# Altium footprint library ST-PJ-312.PcbLib: 1 footprints
Each footprint in its own frame and in the unit in brackets; x right, y up, seen from the top. Pads: shape width x height; smd on the part's side, far side on the other; paste and mask are expansions set on the pad; w line width, h text height; cw(c..) or ccw(c..) is an arc to the next point about the centre after c.
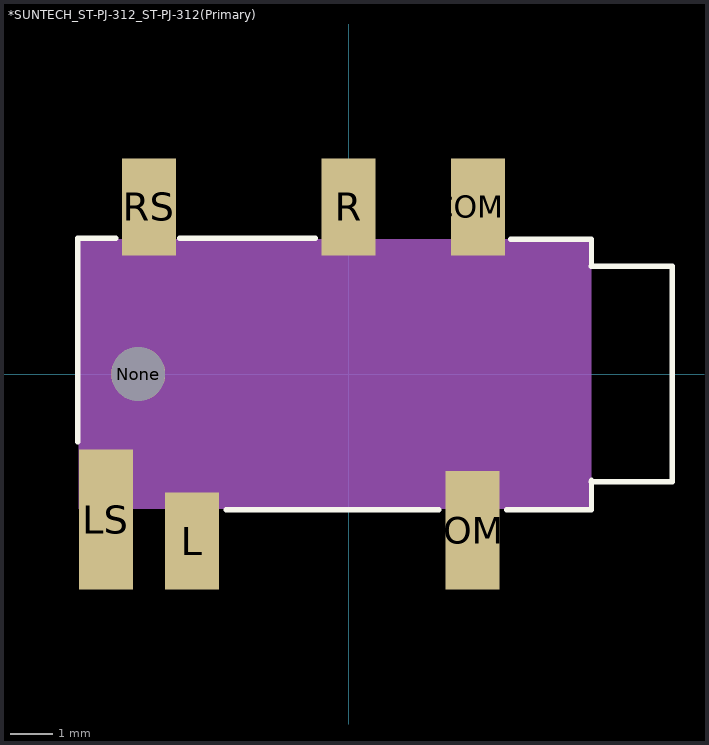
[diagram p0: the footprint, top view; thin cyan lines are the x and y axes]

## *SUNTECH_ST-PJ-312_ST-PJ-312(Primary) [mil]
pads (7):
  rect 50x90 smd: COM1(120,155) L(-145,-155) R(0,155) RS(-185,155)
  rect 50x110 smd: COM2(115,-145)
  rect 50x130 smd: LS(-225,-135)
  round 50 hole 50 unplated: None(-195,0)
Top Overlay:
  lines w5: -251.18,-62.99 -251.18,125.98 -215.75,125.98 ; -156.69,125.98 -30.71,125.98 ; -113.39,-125.98 83.46,-125.98 ; 146.46,-125.98 225.2,-125.98 225.2,-98.43 ; 150.39,125 225.2,125 225.2,102.36 ; 225,-100 300,-100 300,100 225,100
Mechanical 13:
  lines w1: 172.44,-125 172.44,125 172.44,-125
Mechanical 15:
  region: -250.32,125 225,125 225,-125.16 -250.32,-125.16